# EAGLE library part TPA2016 (library tpa2016)
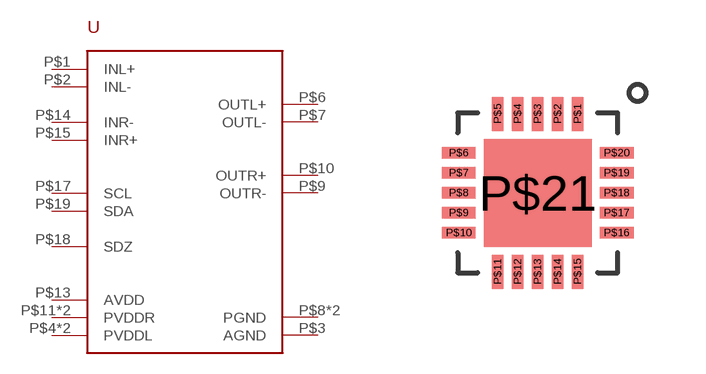
[diagram p0: symbol with the pads of S-PWQFN-N20; footprint S-PWQFN-N20]

Designator prefix -

## TPA2016  [S-PWQFN-N20]
P$1  INL+
P$2  INL-
P$3  AGND
P$4  PVDDL
P$5  PVDDL
P$6  OUTL+
P$7  OUTL-
P$8  PGND
P$9  OUTR-
P$10  OUTR+
P$11  PVDDR
P$12  PVDDR
P$13  AVDD
P$14  INR-
P$15  INR+
P$17  SCL
P$18  SDZ
P$19  SDA
P$21  PGND

## Footprint S-PWQFN-N20 (pad centres in mm)
smd 0.28 x 0.85: P$1 1,1.975; P$2 0.5,1.975; P$3 0,1.975; P$4 -0.5,1.975; P$5 -1,1.975; P$11 -1,-1.975; P$12 -0.5,-1.975; P$13 0,-1.975; P$14 0.5,-1.975; P$15 1,-1.975
smd 0.85 x 0.28: P$6 -1.975,1; P$7 -1.975,0.5; P$8 -1.975,0; P$9 -1.975,-0.5; P$10 -1.975,-1; P$16 1.975,-1; P$17 1.975,-0.5; P$18 1.975,0; P$19 1.975,0.5; P$20 1.975,1
smd 2.7 x 2.7: P$21 0,0